# Altium schematic symbol library MPU-6050.SchLib: 1 symbol
Pins are listed as number, name and electrical type; pins without a type are passive.

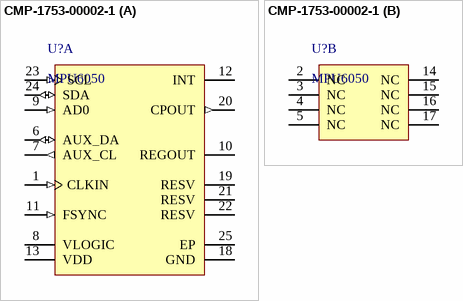
[diagram p0: symbol CMP-1753-00002-1]

## CMP-1753-00002-1
designator U?, comment MPU6050
3-Axis Gyroscope, 3-Axis Accelerometer / , 2.375 to 3.46 V, -40 to 105 degC, 24-Pin QFN, RoHS, Tape and Reel; Resistance: 5.6 kohm; Tolerance: 1%; Voltage Rating: 75 V; Power Rating: 100 mW; ComponentLink1Description: Manufacturer URL; Mount: Surface Mount; Max Operating Temperature: 155degC; Package Quantity: 5000; ComponentLink2Description: Datasheet; Pins: 2; Packaging: Tape and Reel; Case Code (Imperial): 0603; PackageReference: QFN-24; ComponentLink2URL: https://datasheet.ciiva.com/1513/1788002-1513632.pdf; Radiation Hardening: No; ComponentLink1URL: http://www.invensense.com/; PackageDescription: 24-Pin Quad Flat No-lead Package, Body 4 x 4 mm, Pitch 0.5 mm; Height: 0.45 mm; Case/Package: 0603; Case Code (Metric): 1608; REACH SVHC: Yes; Min Operating Temperature: -55degC; DatasheetVersion: Rev. 3.4, 08/2013; Width: 0.8 mm; RoHSCompliant: True; Length: 1.6 mm
footprint INSE-QFN-24_V (QFN, 24-Leads, Body 4.00x4.00mm, Pitch 0.50mm, Thermal Pad 2.7x2.6mm)
part A pins: 1 CLKIN (in) "Optional external reference clock input. Connect to GND if unused.", 6 AUX_DA (io) "I2C master serial data, for connecting to external sensors", 7 AUX_CL (out) "I2C Master serial clock, for connecting to external sensors", 8 VLOGIC (power) "Digital I/O supply voltage", 9 AD0 (in) "I2C Slave Address LSB (AD0)", 10 REGOUT "Regulator filter capacitor connection", 11 FSYNC (in) "Frame synchronization digital input. Connect to GND if unused.", 12 INT (oc) "Interrupt digital output (totem pole or open-drain)", 13 VDD (power) "Power supply voltage and Digital I/O supply voltage", 18 GND (power) "Power supply ground", 19 RESV "Reserved. Do not connect.", 20 CPOUT (out) "Charge pump capacitor connection", 21 RESV "Reserved. Do not connect.", 22 RESV "Reserved. Do not connect.", 23 SCL (in) "I2C serial clock (SCL)", 24 SDA (io) "I2C serial data (SDA)", 25 EP
part B pins: 2 NC "Not internally connected. May be used for PCB trace routing.", 3 NC "Not internally connected. May be used for PCB trace routing.", 4 NC "Not internally connected. May be used for PCB trace routing.", 5 NC "Not internally connected. May be used for PCB trace routing.", 14 NC "Not internally connected. May be used for PCB trace routing.", 15 NC "Not internally connected. May be used for PCB trace routing.", 16 NC "Not internally connected. May be used for PCB trace routing.", 17 NC "Not internally connected. May be used for PCB trace routing."